# EAGLE library part MEDIATEK-3329 (library ANIMAlib)
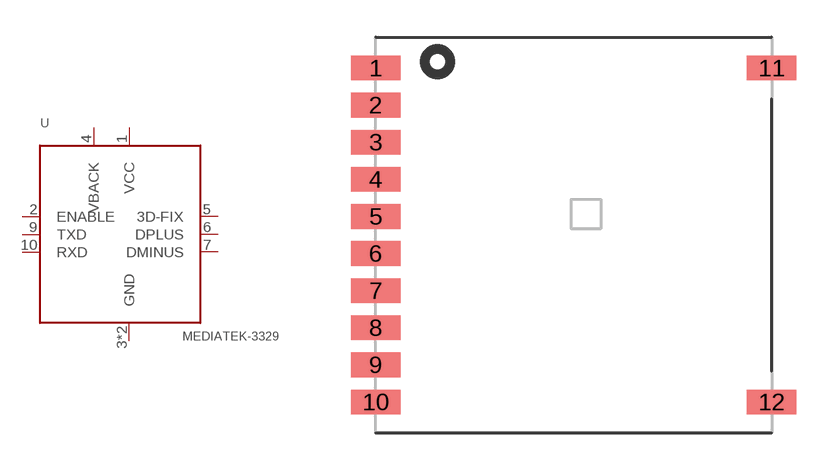
[diagram p30: symbol with the pads of MEDIATEK-3329; footprint MEDIATEK-3329]

Designator prefix U

## MEDIATEK-3329  [MEDIATEK-3329]
1  VCC  pwr
2  ENABLE  in
3  GND  pwr
4  VBACK  pwr
5  3D-FIX  out
6  DPLUS
7  DMINUS
8  GND  pwr
9  TXD  out
10  RXD  in

## Footprint MEDIATEK-3329 (pad centres in mm)
smd 2 x 1: 1 -8,6.75; 2 -8,5.25; 3 -8,3.75; 4 -8,2.25; 5 -8,0.75; 6 -8,-0.75; 7 -8,-2.25; 8 -8,-3.75; 9 -8,-5.25; 10 -8,-6.75; 11 8,6.75; 12 8,-6.75